# Altium integrated library Texas Instruments Interface RS-422.IntLib: 548 symbols (part 4 of 15)
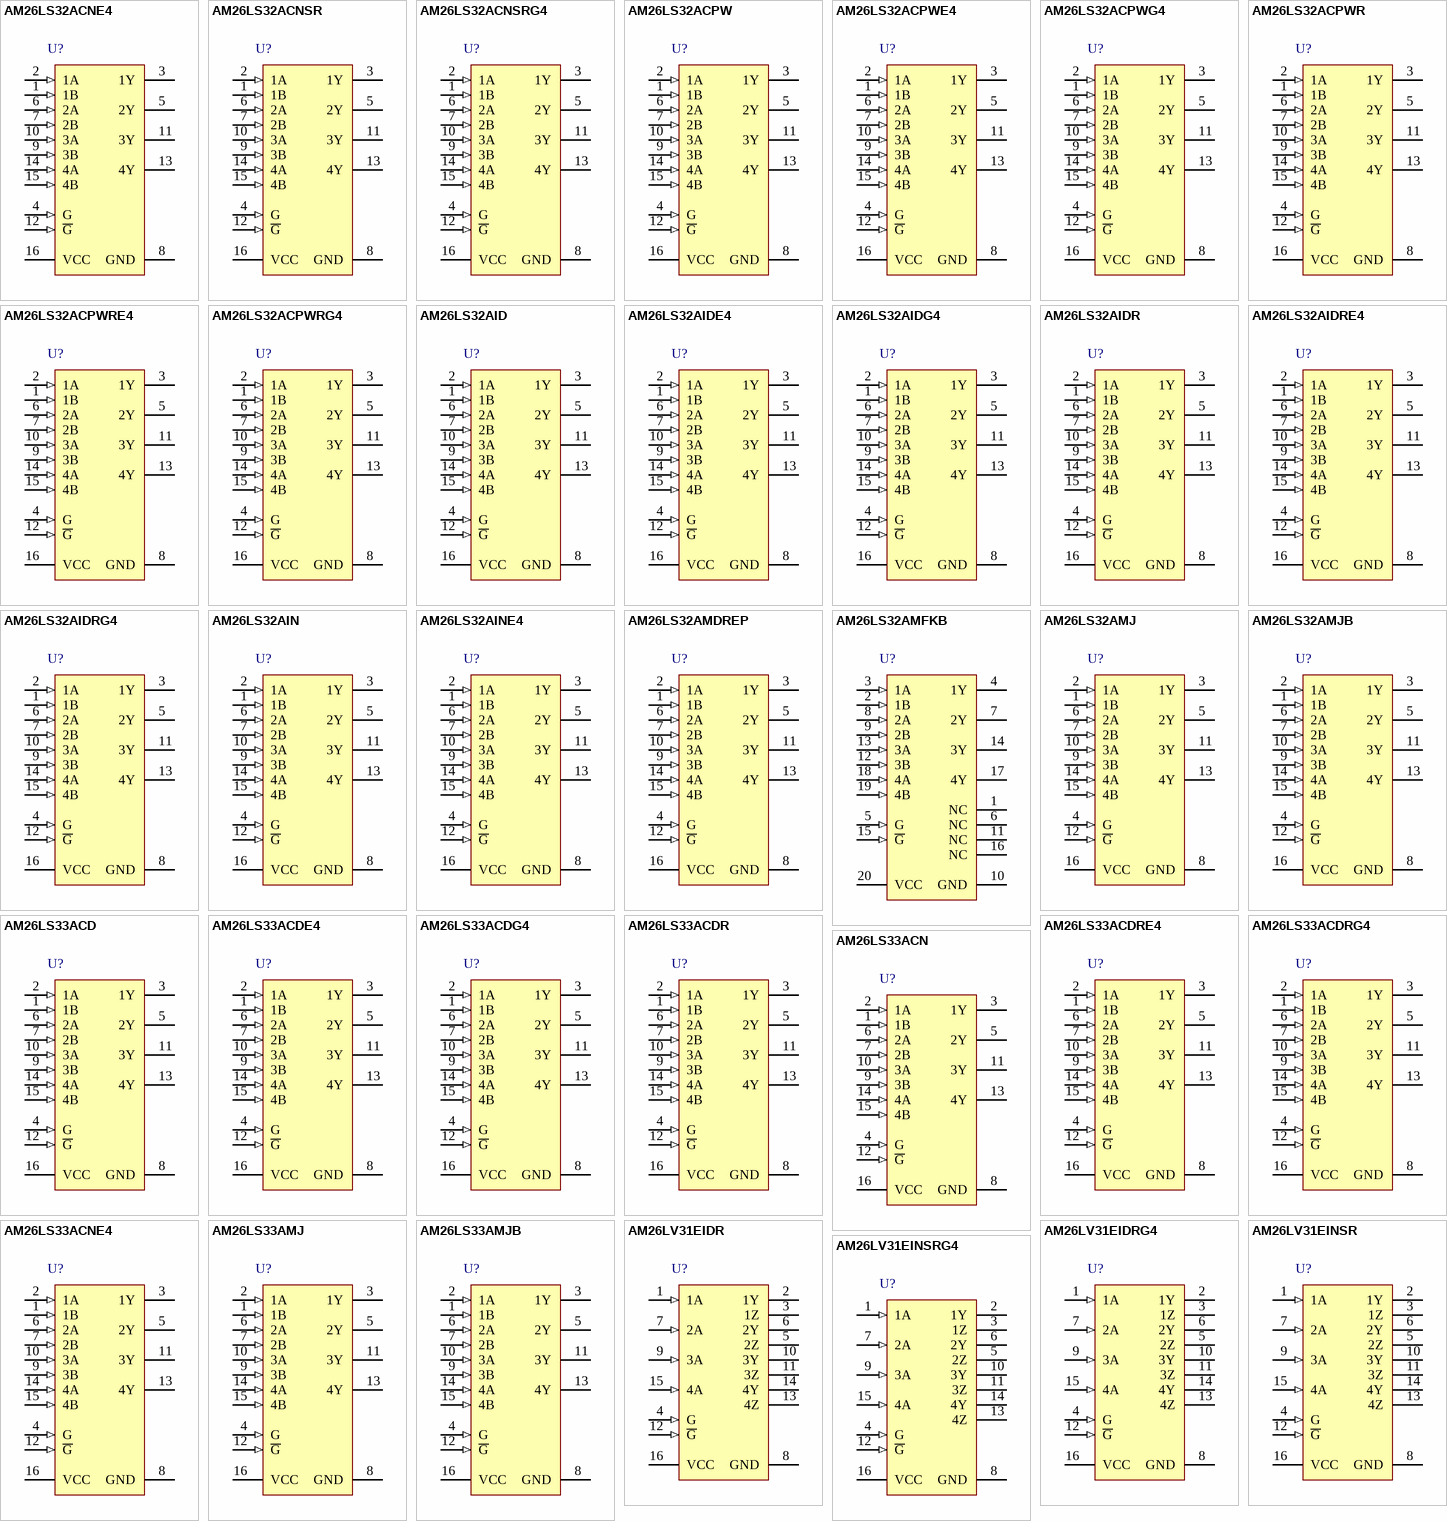
[diagram p18: symbols AM26LS32ACNE4 to AM26LV31EINSRG4]

## AM26LS32AID
designator U?
Quadruple Differential Line Receiver, 0 TX / 4 RX, 5V, -40 to 85 degC, 16-Pin SOIC (D), Green (RoHS & no Sb/Br); PartNumber: AM26LS32AID; Manufacturer: Texas Instruments; SubFamily: RS-422; Receivers Per Package: 4; ICC(Max)(mA): 70; Supply Voltage(s)(V): 5; ESD(kV): 2; Rating: Catalog; DatasheetVersion: SLLS115E; PackageVersion: revM, Jun-2011; PackageReference: D16; PackageDescription: 16-Pin Plastic Small Outline Integrated Circuit, 9.9 x 3.9 mm, Pitch 1.27 mm Pitch; Mounting Technology: Surface Mount; Eco-Plan: Green (RoHS & no Sb/Br); # of TX/RX: 0 TX / 4 RX; Footprint: AM26LS32; Code_JEDEC: MS-012AC; ComponentLink1Description: Datasheet; ComponentLink1URL: http://www.ti.com/general/docs/lit/getliterature.tsp?genericPartNumber=AM26LS32A&fileType=pdf; ComponentLink2Description: Package Specification; ComponentLink2URL: http://www.ti.com/litv/pdf/mpds178g
footprint D16_N (SOIC, 16-Leads, Body 9.9x3.9mm, Pitch 1.27mm, IPC Medium Density)
footprint D16_L (SOIC, 16-Leads, Body 9.9x3.9mm, Pitch 1.27mm, IPC High Density)
footprint D16_M (SOIC, 16-Leads, Body 9.9x3.9mm, Pitch 1.27mm, IPC Low Density)
pins: 1 1B (in), 2 1A (in), 3 1Y (hiz), 4 G (in), 5 2Y (hiz), 6 2A (in), 7 2B (in), 8 GND (power), 9 3B (in), 10 3A (in), 11 3Y (hiz), 12 ~{G} (in), 13 4Y (hiz), 14 4A (in), 15 4B (in), 16 VCC (power)

## AM26LS32AIDE4
designator U?
Quadruple Differential Line Receiver, 0 TX / 4 RX, 5V, -40 to 85 degC, 16-Pin SOIC (D), Green (RoHS & no Sb/Br); PartNumber: AM26LS32AIDE4; Manufacturer: Texas Instruments; SubFamily: RS-422; Receivers Per Package: 4; ICC(Max)(mA): 70; Supply Voltage(s)(V): 5; ESD(kV): 2; Rating: Catalog; DatasheetVersion: SLLS115E; PackageVersion: revM, Jun-2011; PackageReference: D16; PackageDescription: 16-Pin Plastic Small Outline Integrated Circuit, 9.9 x 3.9 mm, Pitch 1.27 mm Pitch; Mounting Technology: Surface Mount; Eco-Plan: Green (RoHS & no Sb/Br); # of TX/RX: 0 TX / 4 RX; Footprint: AM26LS32; Code_JEDEC: MS-012AC; ComponentLink1Description: Datasheet; ComponentLink1URL: http://www.ti.com/general/docs/lit/getliterature.tsp?genericPartNumber=AM26LS32A&fileType=pdf; ComponentLink2Description: Package Specification; ComponentLink2URL: http://www.ti.com/litv/pdf/mpds178g
footprint D16_N (SOIC, 16-Leads, Body 9.9x3.9mm, Pitch 1.27mm, IPC Medium Density)
footprint D16_L (SOIC, 16-Leads, Body 9.9x3.9mm, Pitch 1.27mm, IPC High Density)
footprint D16_M (SOIC, 16-Leads, Body 9.9x3.9mm, Pitch 1.27mm, IPC Low Density)
pins: 1 1B (in), 2 1A (in), 3 1Y (hiz), 4 G (in), 5 2Y (hiz), 6 2A (in), 7 2B (in), 8 GND (power), 9 3B (in), 10 3A (in), 11 3Y (hiz), 12 ~{G} (in), 13 4Y (hiz), 14 4A (in), 15 4B (in), 16 VCC (power)

## AM26LS32AIDG4
designator U?
Quadruple Differential Line Receiver, 0 TX / 4 RX, 5V, -40 to 85 degC, 16-Pin SOIC (D), Green (RoHS & no Sb/Br); PartNumber: AM26LS32AIDG4; Manufacturer: Texas Instruments; SubFamily: RS-422; Receivers Per Package: 4; ICC(Max)(mA): 70; Supply Voltage(s)(V): 5; ESD(kV): 2; Rating: Catalog; DatasheetVersion: SLLS115E; PackageVersion: revM, Jun-2011; PackageReference: D16; PackageDescription: 16-Pin Plastic Small Outline Integrated Circuit, 9.9 x 3.9 mm, Pitch 1.27 mm Pitch; Mounting Technology: Surface Mount; Eco-Plan: Green (RoHS & no Sb/Br); # of TX/RX: 0 TX / 4 RX; Footprint: AM26LS32; Code_JEDEC: MS-012AC; ComponentLink1Description: Datasheet; ComponentLink1URL: http://www.ti.com/general/docs/lit/getliterature.tsp?genericPartNumber=AM26LS32A&fileType=pdf; ComponentLink2Description: Package Specification; ComponentLink2URL: http://www.ti.com/litv/pdf/mpds178g
footprint D16_N (SOIC, 16-Leads, Body 9.9x3.9mm, Pitch 1.27mm, IPC Medium Density)
footprint D16_L (SOIC, 16-Leads, Body 9.9x3.9mm, Pitch 1.27mm, IPC High Density)
footprint D16_M (SOIC, 16-Leads, Body 9.9x3.9mm, Pitch 1.27mm, IPC Low Density)
pins: 1 1B (in), 2 1A (in), 3 1Y (hiz), 4 G (in), 5 2Y (hiz), 6 2A (in), 7 2B (in), 8 GND (power), 9 3B (in), 10 3A (in), 11 3Y (hiz), 12 ~{G} (in), 13 4Y (hiz), 14 4A (in), 15 4B (in), 16 VCC (power)

## AM26LS32AIDR
designator U?
Quadruple Differential Line Receiver, 0 TX / 4 RX, 5V, -40 to 85 degC, 16-Pin SOIC (D), Green (RoHS & no Sb/Br); PartNumber: AM26LS32AIDR; Manufacturer: Texas Instruments; SubFamily: RS-422; Receivers Per Package: 4; ICC(Max)(mA): 70; Supply Voltage(s)(V): 5; ESD(kV): 2; Rating: Catalog; DatasheetVersion: SLLS115E; PackageVersion: revM, Jun-2011; PackageReference: D16; PackageDescription: 16-Pin Plastic Small Outline Integrated Circuit, 9.9 x 3.9 mm, Pitch 1.27 mm Pitch; Mounting Technology: Surface Mount; Eco-Plan: Green (RoHS & no Sb/Br); # of TX/RX: 0 TX / 4 RX; Footprint: AM26LS32; Code_JEDEC: MS-012AC; ComponentLink1Description: Datasheet; ComponentLink1URL: http://www.ti.com/general/docs/lit/getliterature.tsp?genericPartNumber=AM26LS32A&fileType=pdf; ComponentLink2Description: Package Specification; ComponentLink2URL: http://www.ti.com/litv/pdf/mpds178g
footprint D16_N (SOIC, 16-Leads, Body 9.9x3.9mm, Pitch 1.27mm, IPC Medium Density)
footprint D16_L (SOIC, 16-Leads, Body 9.9x3.9mm, Pitch 1.27mm, IPC High Density)
footprint D16_M (SOIC, 16-Leads, Body 9.9x3.9mm, Pitch 1.27mm, IPC Low Density)
pins: 1 1B (in), 2 1A (in), 3 1Y (hiz), 4 G (in), 5 2Y (hiz), 6 2A (in), 7 2B (in), 8 GND (power), 9 3B (in), 10 3A (in), 11 3Y (hiz), 12 ~{G} (in), 13 4Y (hiz), 14 4A (in), 15 4B (in), 16 VCC (power)

## AM26LS32AIDRE4
designator U?
Quadruple Differential Line Receiver, 0 TX / 4 RX, 5V, -40 to 85 degC, 16-Pin SOIC (D), Green (RoHS & no Sb/Br); PartNumber: AM26LS32AIDRE4; Manufacturer: Texas Instruments; SubFamily: RS-422; Receivers Per Package: 4; ICC(Max)(mA): 70; Supply Voltage(s)(V): 5; ESD(kV): 2; Rating: Catalog; DatasheetVersion: SLLS115E; PackageVersion: revM, Jun-2011; PackageReference: D16; PackageDescription: 16-Pin Plastic Small Outline Integrated Circuit, 9.9 x 3.9 mm, Pitch 1.27 mm Pitch; Mounting Technology: Surface Mount; Eco-Plan: Green (RoHS & no Sb/Br); # of TX/RX: 0 TX / 4 RX; Footprint: AM26LS32; Code_JEDEC: MS-012AC; ComponentLink1Description: Datasheet; ComponentLink1URL: http://www.ti.com/general/docs/lit/getliterature.tsp?genericPartNumber=AM26LS32A&fileType=pdf; ComponentLink2Description: Package Specification; ComponentLink2URL: http://www.ti.com/litv/pdf/mpds178g
footprint D16_N (SOIC, 16-Leads, Body 9.9x3.9mm, Pitch 1.27mm, IPC Medium Density)
footprint D16_L (SOIC, 16-Leads, Body 9.9x3.9mm, Pitch 1.27mm, IPC High Density)
footprint D16_M (SOIC, 16-Leads, Body 9.9x3.9mm, Pitch 1.27mm, IPC Low Density)
pins: 1 1B (in), 2 1A (in), 3 1Y (hiz), 4 G (in), 5 2Y (hiz), 6 2A (in), 7 2B (in), 8 GND (power), 9 3B (in), 10 3A (in), 11 3Y (hiz), 12 ~{G} (in), 13 4Y (hiz), 14 4A (in), 15 4B (in), 16 VCC (power)

## AM26LS32AIDRG4
designator U?
Quadruple Differential Line Receiver, 0 TX / 4 RX, 5V, -40 to 85 degC, 16-Pin SOIC (D), Green (RoHS & no Sb/Br); PartNumber: AM26LS32AIDRG4; Manufacturer: Texas Instruments; SubFamily: RS-422; Receivers Per Package: 4; ICC(Max)(mA): 70; Supply Voltage(s)(V): 5; ESD(kV): 2; Rating: Catalog; DatasheetVersion: SLLS115E; PackageVersion: revM, Jun-2011; PackageReference: D16; PackageDescription: 16-Pin Plastic Small Outline Integrated Circuit, 9.9 x 3.9 mm, Pitch 1.27 mm Pitch; Mounting Technology: Surface Mount; Eco-Plan: Green (RoHS & no Sb/Br); # of TX/RX: 0 TX / 4 RX; Footprint: AM26LS32; Code_JEDEC: MS-012AC; ComponentLink1Description: Datasheet; ComponentLink1URL: http://www.ti.com/general/docs/lit/getliterature.tsp?genericPartNumber=AM26LS32A&fileType=pdf; ComponentLink2Description: Package Specification; ComponentLink2URL: http://www.ti.com/litv/pdf/mpds178g
footprint D16_N (SOIC, 16-Leads, Body 9.9x3.9mm, Pitch 1.27mm, IPC Medium Density)
footprint D16_L (SOIC, 16-Leads, Body 9.9x3.9mm, Pitch 1.27mm, IPC High Density)
footprint D16_M (SOIC, 16-Leads, Body 9.9x3.9mm, Pitch 1.27mm, IPC Low Density)
pins: 1 1B (in), 2 1A (in), 3 1Y (hiz), 4 G (in), 5 2Y (hiz), 6 2A (in), 7 2B (in), 8 GND (power), 9 3B (in), 10 3A (in), 11 3Y (hiz), 12 ~{G} (in), 13 4Y (hiz), 14 4A (in), 15 4B (in), 16 VCC (power)

## AM26LS32AIN
designator U?
Quadruple Differential Line Receiver, 0 TX / 4 RX, 5V, -40 to 85 degC, 16-Pin PDIP (N), Green (RoHS & no Sb/Br); PartNumber: AM26LS32AIN; Manufacturer: Texas Instruments; SubFamily: RS-422; Receivers Per Package: 4; ICC(Max)(mA): 70; Supply Voltage(s)(V): 5; ESD(kV): 2; Rating: Catalog; DatasheetVersion: SLLS115E; PackageVersion: revE, Dec-2002; PackageReference: N16; PackageDescription: 16-Pin Plastic Dual-In-Line Package, Row Spacing 7.62 mm, Pitch 2.54 mm; Mounting Technology: Through-hole; Eco-Plan: Green (RoHS & no Sb/Br); # of TX/RX: 0 TX / 4 RX; Footprint: AM26LS32; Code_JEDEC: MS-001*; ComponentLink1Description: Datasheet; ComponentLink1URL: http://www.ti.com/general/docs/lit/getliterature.tsp?genericPartNumber=AM26LS32A&fileType=pdf; ComponentLink2Description: Package Specification; ComponentLink2URL: http://www.ti.com/lit/ml/mpdi002c/mpdi002c.pdf
footprint N16 (DIP, 16-Leads, Row Spacing 7.62mm, Pitch 2.54mm, Body 19.3x6.4mm)
pins: 1 1B (in), 2 1A (in), 3 1Y (hiz), 4 G (in), 5 2Y (hiz), 6 2A (in), 7 2B (in), 8 GND (power), 9 3B (in), 10 3A (in), 11 3Y (hiz), 12 ~{G} (in), 13 4Y (hiz), 14 4A (in), 15 4B (in), 16 VCC (power)

## AM26LS32AINE4
designator U?
Quadruple Differential Line Receiver, 0 TX / 4 RX, 5V, -40 to 85 degC, 16-Pin PDIP (N), Green (RoHS & no Sb/Br); PartNumber: AM26LS32AINE4; Manufacturer: Texas Instruments; SubFamily: RS-422; Receivers Per Package: 4; ICC(Max)(mA): 70; Supply Voltage(s)(V): 5; ESD(kV): 2; Rating: Catalog; DatasheetVersion: SLLS115E; PackageVersion: revE, Dec-2002; PackageReference: N16; PackageDescription: 16-Pin Plastic Dual-In-Line Package, Row Spacing 7.62 mm, Pitch 2.54 mm; Mounting Technology: Through-hole; Eco-Plan: Green (RoHS & no Sb/Br); # of TX/RX: 0 TX / 4 RX; Footprint: AM26LS32; Code_JEDEC: MS-001*; ComponentLink1Description: Datasheet; ComponentLink1URL: http://www.ti.com/general/docs/lit/getliterature.tsp?genericPartNumber=AM26LS32A&fileType=pdf; ComponentLink2Description: Package Specification; ComponentLink2URL: http://www.ti.com/lit/ml/mpdi002c/mpdi002c.pdf
footprint N16 (DIP, 16-Leads, Row Spacing 7.62mm, Pitch 2.54mm, Body 19.3x6.4mm)
pins: 1 1B (in), 2 1A (in), 3 1Y (hiz), 4 G (in), 5 2Y (hiz), 6 2A (in), 7 2B (in), 8 GND (power), 9 3B (in), 10 3A (in), 11 3Y (hiz), 12 ~{G} (in), 13 4Y (hiz), 14 4A (in), 15 4B (in), 16 VCC (power)

## AM26LS32AMDREP
designator U?
Enhanced Product Quadruple Differential Line Receiver, 0 TX / 4 RX, 5V, -55 to 125 degC, 16-Pin SOIC (D), Green (RoHS & no Sb/Br); PartNumber: AM26LS32AMDREP; Manufacturer: Texas Instruments; SubFamily: RS-422; ICC(Max)(mA): 70; Supply Voltage(s)(V): 5; Rating: HiRel Enhanced Product; DatasheetVersion: SLLS730; PackageVersion: revM, Jun-2011; PackageReference: D16; PackageDescription: 16-Pin Plastic Small Outline Integrated Circuit, 9.9 x 3.9 mm, Pitch 1.27 mm Pitch; Mounting Technology: Surface Mount; Eco-Plan: Green (RoHS & no Sb/Br); # of TX/RX: 0 TX / 4 RX; Code_JEDEC: MS-012AC; ComponentLink1Description: Datasheet; ComponentLink1URL: http://www.ti.com/general/docs/lit/getliterature.tsp?genericPartNumber=AM26LS32AM-EP&fileType=pdf; ComponentLink2Description: Package Specification; ComponentLink2URL: http://www.ti.com/litv/pdf/mpds178g
footprint D16_N (SOIC, 16-Leads, Body 9.9x3.9mm, Pitch 1.27mm, IPC Medium Density)
footprint D16_L (SOIC, 16-Leads, Body 9.9x3.9mm, Pitch 1.27mm, IPC High Density)
footprint D16_M (SOIC, 16-Leads, Body 9.9x3.9mm, Pitch 1.27mm, IPC Low Density)
pins: 1 1B (in), 2 1A (in), 3 1Y (hiz), 4 G (in), 5 2Y (hiz), 6 2A (in), 7 2B (in), 8 GND (power), 9 3B (in), 10 3A (in), 11 3Y (hiz), 12 ~{G} (in), 13 4Y (hiz), 14 4A (in), 15 4B (in), 16 VCC (power)

## AM26LS32AMFKB
designator U?
Quadruple Differential Line Receiver, 0 TX / 4 RX, -55 to 125 degC, 20-Pin LCCC(FK); PartNumber: AM26LS32AMFKB; Manufacturer: Texas Instruments; Eco-Plan: TBD; SubFamily: RS-422; Receivers Per Package: 4; ICC(Max)(mA): 70; Rating: Military; DatasheetVersion: SLLS115E; PackageVersion: revD, Jan-2011; PackageReference: FK20; PackageDescription: 20-Pin Leadless Ceramic Chip Carrier, 1.27 mm Pitch; Mounting Technology: Surface Mount; # of TX/RX: 0 TX / 4 RX; Code_JEDEC: MS-004; ComponentLink1Description: Datasheet; ComponentLink1URL: http://www.ti.com/general/docs/lit/getliterature.tsp?genericPartNumber=AM26LS32AM&fileType=pdf; ComponentLink2Description: Package Specification; ComponentLink2URL: http://www.ti.com/litv/pdf/mlcc006d
footprint FK20_N (Leadless Chip Carrier, 20-Leads, Body 8.9x8.9mm, Pitch 1.27mm, IPC Medium Density)
footprint FK20_L (Leadless Chip Carrier, 20-Leads, Body 8.9x8.9mm, Pitch 1.27mm, IPC High Density)
footprint FK20_M (Leadless Chip Carrier, 20-Leads, Body 8.9x8.9mm, Pitch 1.27mm, IPC Low Density)
pins: 1 NC, 2 1B (in), 3 1A (in), 4 1Y (hiz), 5 G (in), 6 NC, 7 2Y (hiz), 8 2A (in), 9 2B (in), 10 GND (power), 11 NC, 12 3B (in), 13 3A (in), 14 3Y (hiz), 15 ~{G} (in), 16 NC, 17 4Y (hiz), 18 4A (in), 19 4B (in), 20 VCC (power)

## AM26LS32AMJ
designator U?
Quadruple Differential Line Receiver, 0 TX / 4 RX, -55 to 125 degC, 16-Pin CDIP(J); PartNumber: AM26LS32AMJ; Manufacturer: Texas Instruments; Eco-Plan: TBD; SubFamily: RS-422; Receivers Per Package: 4; ICC(Max)(mA): 70; Rating: Military; DatasheetVersion: SLLS115E; PackageVersion: revF, Mar-2003; PackageReference: J16; PackageDescription: 16-Pin, Ceramic Dual In-Line Package, Row Spacing 7.62 mm, Pitch 2.54 mm; Mounting Technology: Through-hole; # of TX/RX: 0 TX / 4 RX; ComponentLink1Description: Datasheet; ComponentLink1URL: http://www.ti.com/general/docs/lit/getliterature.tsp?genericPartNumber=AM26LS32AM&fileType=pdf; ComponentLink2Description: Package Specification; ComponentLink2URL: http://www.ti.com/lit/ml/mcer002d/mcer002d.pdf
footprint J16 (DIP, 16-Leads, Row Spacing 7.62mm, Pitch 2.54mm, Body 21.3x6.9mm)
pins: 1 1B (in), 2 1A (in), 3 1Y (hiz), 4 G (in), 5 2Y (hiz), 6 2A (in), 7 2B (in), 8 GND (power), 9 3B (in), 10 3A (in), 11 3Y (hiz), 12 ~{G} (in), 13 4Y (hiz), 14 4A (in), 15 4B (in), 16 VCC (power)

## AM26LS32AMJB
designator U?
Quadruple Differential Line Receiver, 0 TX / 4 RX, -55 to 125 degC, 16-Pin CDIP(J); PartNumber: AM26LS32AMJB; Manufacturer: Texas Instruments; Eco-Plan: TBD; SubFamily: RS-422; Receivers Per Package: 4; ICC(Max)(mA): 70; Rating: Military; DatasheetVersion: SLLS115E; PackageVersion: revF, Mar-2003; PackageReference: J16; PackageDescription: 16-Pin, Ceramic Dual In-Line Package, Row Spacing 7.62 mm, Pitch 2.54 mm; Mounting Technology: Through-hole; # of TX/RX: 0 TX / 4 RX; ComponentLink1Description: Datasheet; ComponentLink1URL: http://www.ti.com/general/docs/lit/getliterature.tsp?genericPartNumber=AM26LS32AM&fileType=pdf; ComponentLink2Description: Package Specification; ComponentLink2URL: http://www.ti.com/lit/ml/mcer002d/mcer002d.pdf
footprint J16 (DIP, 16-Leads, Row Spacing 7.62mm, Pitch 2.54mm, Body 21.3x6.9mm)
pins: 1 1B (in), 2 1A (in), 3 1Y (hiz), 4 G (in), 5 2Y (hiz), 6 2A (in), 7 2B (in), 8 GND (power), 9 3B (in), 10 3A (in), 11 3Y (hiz), 12 ~{G} (in), 13 4Y (hiz), 14 4A (in), 15 4B (in), 16 VCC (power)

## AM26LS33ACD
designator U?
Quadruple Differential Line Receiver, 0 TX / 4 RX, 5V, 0 to 70 degC, 16-Pin SOIC (D), Green (RoHS & no Sb/Br); PartNumber: AM26LS33ACD; Manufacturer: Texas Instruments; SubFamily: RS-422; Receivers Per Package: 4; ICC(Max)(mA): 70; Receiver (Vth)(mV): 500; Receiver tpd(ns): 35; Supply Voltage(s)(V): 5; Rating: Catalog; DatasheetVersion: SLLS115E; PackageVersion: revM, Jun-2011; PackageReference: D16; PackageDescription: 16-Pin Plastic Small Outline Integrated Circuit, 9.9 x 3.9 mm, Pitch 1.27 mm Pitch; Mounting Technology: Surface Mount; Eco-Plan: Green (RoHS & no Sb/Br); # of TX/RX: 0 TX / 4 RX; Footprint: AM26LS32; Code_JEDEC: MS-012AC; ComponentLink1Description: Datasheet; ComponentLink1URL: http://www.ti.com/general/docs/lit/getliterature.tsp?genericPartNumber=AM26LS33A&fileType=pdf; ComponentLink2Description: Package Specification; ComponentLink2URL: http://www.ti.com/litv/pdf/mpds178g
footprint D16_N (SOIC, 16-Leads, Body 9.9x3.9mm, Pitch 1.27mm, IPC Medium Density)
footprint D16_L (SOIC, 16-Leads, Body 9.9x3.9mm, Pitch 1.27mm, IPC High Density)
footprint D16_M (SOIC, 16-Leads, Body 9.9x3.9mm, Pitch 1.27mm, IPC Low Density)
pins: 1 1B (in), 2 1A (in), 3 1Y (hiz), 4 G (in), 5 2Y (hiz), 6 2A (in), 7 2B (in), 8 GND (power), 9 3B (in), 10 3A (in), 11 3Y (hiz), 12 ~{G} (in), 13 4Y (hiz), 14 4A (in), 15 4B (in), 16 VCC (power)

## AM26LS33ACDE4
designator U?
Quadruple Differential Line Receiver, 0 TX / 4 RX, 5V, 0 to 70 degC, 16-Pin SOIC (D), Green (RoHS & no Sb/Br); PartNumber: AM26LS33ACDE4; Manufacturer: Texas Instruments; SubFamily: RS-422; Receivers Per Package: 4; ICC(Max)(mA): 70; Receiver (Vth)(mV): 500; Receiver tpd(ns): 35; Supply Voltage(s)(V): 5; Rating: Catalog; DatasheetVersion: SLLS115E; PackageVersion: revM, Jun-2011; PackageReference: D16; PackageDescription: 16-Pin Plastic Small Outline Integrated Circuit, 9.9 x 3.9 mm, Pitch 1.27 mm Pitch; Mounting Technology: Surface Mount; Eco-Plan: Green (RoHS & no Sb/Br); # of TX/RX: 0 TX / 4 RX; Footprint: AM26LS32; Code_JEDEC: MS-012AC; ComponentLink1Description: Datasheet; ComponentLink1URL: http://www.ti.com/general/docs/lit/getliterature.tsp?genericPartNumber=AM26LS33A&fileType=pdf; ComponentLink2Description: Package Specification; ComponentLink2URL: http://www.ti.com/litv/pdf/mpds178g
footprint D16_N (SOIC, 16-Leads, Body 9.9x3.9mm, Pitch 1.27mm, IPC Medium Density)
footprint D16_L (SOIC, 16-Leads, Body 9.9x3.9mm, Pitch 1.27mm, IPC High Density)
footprint D16_M (SOIC, 16-Leads, Body 9.9x3.9mm, Pitch 1.27mm, IPC Low Density)
pins: 1 1B (in), 2 1A (in), 3 1Y (hiz), 4 G (in), 5 2Y (hiz), 6 2A (in), 7 2B (in), 8 GND (power), 9 3B (in), 10 3A (in), 11 3Y (hiz), 12 ~{G} (in), 13 4Y (hiz), 14 4A (in), 15 4B (in), 16 VCC (power)

## AM26LS33ACDG4
designator U?
Quadruple Differential Line Receiver, 0 TX / 4 RX, 5V, 0 to 70 degC, 16-Pin SOIC (D), Green (RoHS & no Sb/Br); PartNumber: AM26LS33ACDG4; Manufacturer: Texas Instruments; SubFamily: RS-422; Receivers Per Package: 4; ICC(Max)(mA): 70; Receiver (Vth)(mV): 500; Receiver tpd(ns): 35; Supply Voltage(s)(V): 5; Rating: Catalog; DatasheetVersion: SLLS115E; PackageVersion: revM, Jun-2011; PackageReference: D16; PackageDescription: 16-Pin Plastic Small Outline Integrated Circuit, 9.9 x 3.9 mm, Pitch 1.27 mm Pitch; Mounting Technology: Surface Mount; Eco-Plan: Green (RoHS & no Sb/Br); # of TX/RX: 0 TX / 4 RX; Footprint: AM26LS32; Code_JEDEC: MS-012AC; ComponentLink1Description: Datasheet; ComponentLink1URL: http://www.ti.com/general/docs/lit/getliterature.tsp?genericPartNumber=AM26LS33A&fileType=pdf; ComponentLink2Description: Package Specification; ComponentLink2URL: http://www.ti.com/litv/pdf/mpds178g
footprint D16_N (SOIC, 16-Leads, Body 9.9x3.9mm, Pitch 1.27mm, IPC Medium Density)
footprint D16_L (SOIC, 16-Leads, Body 9.9x3.9mm, Pitch 1.27mm, IPC High Density)
footprint D16_M (SOIC, 16-Leads, Body 9.9x3.9mm, Pitch 1.27mm, IPC Low Density)
pins: 1 1B (in), 2 1A (in), 3 1Y (hiz), 4 G (in), 5 2Y (hiz), 6 2A (in), 7 2B (in), 8 GND (power), 9 3B (in), 10 3A (in), 11 3Y (hiz), 12 ~{G} (in), 13 4Y (hiz), 14 4A (in), 15 4B (in), 16 VCC (power)

## AM26LS33ACDR
designator U?
Quadruple Differential Line Receiver, 0 TX / 4 RX, 5V, 0 to 70 degC, 16-Pin SOIC(D), Green (RoHS & no Sb/Br); PartNumber: AM26LS33ACDR; Manufacturer: Texas Instruments; SubFamily: RS-422; Receivers Per Package: 4; ICC(Max)(mA): 70; Receiver (Vth)(mV): 500; Receiver tpd(ns): 35; Supply Voltage(s)(V): 5; Rating: Catalog; DatasheetVersion: SLLS115E; PackageVersion: revM, Jun-2011; PackageReference: D16; PackageDescription: 16-Pin Plastic Small Outline Integrated Circuit, 9.9 x 3.9 mm, Pitch 1.27 mm Pitch; Mounting Technology: Surface Mount; Eco-Plan: Green (RoHS & no Sb/Br); # of TX/RX: 0 TX / 4 RX; Footprint: AM26LS32; Code_JEDEC: MS-012AC; ComponentLink1Description: Datasheet; ComponentLink1URL: http://www.ti.com/general/docs/lit/getliterature.tsp?genericPartNumber=AM26LS33A&fileType=pdf; ComponentLink2Description: Package Specification; ComponentLink2URL: http://www.ti.com/litv/pdf/mpds178g
footprint D16_N (SOIC, 16-Leads, Body 9.9x3.9mm, Pitch 1.27mm, IPC Medium Density)
footprint D16_L (SOIC, 16-Leads, Body 9.9x3.9mm, Pitch 1.27mm, IPC High Density)
footprint D16_M (SOIC, 16-Leads, Body 9.9x3.9mm, Pitch 1.27mm, IPC Low Density)
pins: 1 1B (in), 2 1A (in), 3 1Y (hiz), 4 G (in), 5 2Y (hiz), 6 2A (in), 7 2B (in), 8 GND (power), 9 3B (in), 10 3A (in), 11 3Y (hiz), 12 ~{G} (in), 13 4Y (hiz), 14 4A (in), 15 4B (in), 16 VCC (power)

## AM26LS33ACDRE4
designator U?
Quadruple Differential Line Receiver, 0 TX / 4 RX, 5V, 0 to 70 degC, 16-Pin SOIC(D), Green (RoHS & no Sb/Br); PartNumber: AM26LS33ACDRE4; Manufacturer: Texas Instruments; SubFamily: RS-422; Receivers Per Package: 4; ICC(Max)(mA): 70; Receiver (Vth)(mV): 500; Receiver tpd(ns): 35; Supply Voltage(s)(V): 5; Rating: Catalog; DatasheetVersion: SLLS115E; PackageVersion: revM, Jun-2011; PackageReference: D16; PackageDescription: 16-Pin Plastic Small Outline Integrated Circuit, 9.9 x 3.9 mm, Pitch 1.27 mm Pitch; Mounting Technology: Surface Mount; Eco-Plan: Green (RoHS & no Sb/Br); # of TX/RX: 0 TX / 4 RX; Footprint: AM26LS32; Code_JEDEC: MS-012AC; ComponentLink1Description: Datasheet; ComponentLink1URL: http://www.ti.com/general/docs/lit/getliterature.tsp?genericPartNumber=AM26LS33A&fileType=pdf; ComponentLink2Description: Package Specification; ComponentLink2URL: http://www.ti.com/litv/pdf/mpds178g
footprint D16_N (SOIC, 16-Leads, Body 9.9x3.9mm, Pitch 1.27mm, IPC Medium Density)
footprint D16_L (SOIC, 16-Leads, Body 9.9x3.9mm, Pitch 1.27mm, IPC High Density)
footprint D16_M (SOIC, 16-Leads, Body 9.9x3.9mm, Pitch 1.27mm, IPC Low Density)
pins: 1 1B (in), 2 1A (in), 3 1Y (hiz), 4 G (in), 5 2Y (hiz), 6 2A (in), 7 2B (in), 8 GND (power), 9 3B (in), 10 3A (in), 11 3Y (hiz), 12 ~{G} (in), 13 4Y (hiz), 14 4A (in), 15 4B (in), 16 VCC (power)

## AM26LS33ACDRG4
designator U?
Quadruple Differential Line Receiver, 0 TX / 4 RX, 5V, 0 to 70 degC, 16-Pin SOIC(D), Green (RoHS & no Sb/Br); PartNumber: AM26LS33ACDRG4; Manufacturer: Texas Instruments; SubFamily: RS-422; Receivers Per Package: 4; ICC(Max)(mA): 70; Receiver (Vth)(mV): 500; Receiver tpd(ns): 35; Supply Voltage(s)(V): 5; Rating: Catalog; DatasheetVersion: SLLS115E; PackageVersion: revM, Jun-2011; PackageReference: D16; PackageDescription: 16-Pin Plastic Small Outline Integrated Circuit, 9.9 x 3.9 mm, Pitch 1.27 mm Pitch; Mounting Technology: Surface Mount; Eco-Plan: Green (RoHS & no Sb/Br); # of TX/RX: 0 TX / 4 RX; Footprint: AM26LS32; Code_JEDEC: MS-012AC; ComponentLink1Description: Datasheet; ComponentLink1URL: http://www.ti.com/general/docs/lit/getliterature.tsp?genericPartNumber=AM26LS33A&fileType=pdf; ComponentLink2Description: Package Specification; ComponentLink2URL: http://www.ti.com/litv/pdf/mpds178g
footprint D16_N (SOIC, 16-Leads, Body 9.9x3.9mm, Pitch 1.27mm, IPC Medium Density)
footprint D16_L (SOIC, 16-Leads, Body 9.9x3.9mm, Pitch 1.27mm, IPC High Density)
footprint D16_M (SOIC, 16-Leads, Body 9.9x3.9mm, Pitch 1.27mm, IPC Low Density)
pins: 1 1B (in), 2 1A (in), 3 1Y (hiz), 4 G (in), 5 2Y (hiz), 6 2A (in), 7 2B (in), 8 GND (power), 9 3B (in), 10 3A (in), 11 3Y (hiz), 12 ~{G} (in), 13 4Y (hiz), 14 4A (in), 15 4B (in), 16 VCC (power)

## AM26LS33ACN
designator U?
Quadruple Differential Line Receiver, 0 TX / 4 RX, 5V, 0 to 70 degC, 16-Pin PDIP(N), Green (RoHS & no Sb/Br); PartNumber: AM26LS33ACN; Manufacturer: Texas Instruments; SubFamily: RS-422; Receivers Per Package: 4; ICC(Max)(mA): 70; Receiver (Vth)(mV): 500; Receiver tpd(ns): 35; Supply Voltage(s)(V): 5; Rating: Catalog; DatasheetVersion: SLLS115E; PackageVersion: revE, Dec-2002; PackageReference: N16; PackageDescription: 16-Pin Plastic Dual-In-Line Package, Row Spacing 7.62 mm, Pitch 2.54 mm; Mounting Technology: Through-hole; Eco-Plan: Green (RoHS & no Sb/Br); # of TX/RX: 0 TX / 4 RX; Footprint: AM26LS32; Code_JEDEC: MS-001*; ComponentLink1Description: Datasheet; ComponentLink1URL: http://www.ti.com/general/docs/lit/getliterature.tsp?genericPartNumber=AM26LS33A&fileType=pdf; ComponentLink2Description: Package Specification; ComponentLink2URL: http://www.ti.com/lit/ml/mpdi002c/mpdi002c.pdf
footprint N16 (DIP, 16-Leads, Row Spacing 7.62mm, Pitch 2.54mm, Body 19.3x6.4mm)
pins: 1 1B (in), 2 1A (in), 3 1Y (hiz), 4 G (in), 5 2Y (hiz), 6 2A (in), 7 2B (in), 8 GND (power), 9 3B (in), 10 3A (in), 11 3Y (hiz), 12 ~{G} (in), 13 4Y (hiz), 14 4A (in), 15 4B (in), 16 VCC (power)

## AM26LS33ACNE4
designator U?
Quadruple Differential Line Receiver, 0 TX / 4 RX, 5V, 0 to 70 degC, 16-Pin PDIP(N), Green (RoHS & no Sb/Br); PartNumber: AM26LS33ACNE4; Manufacturer: Texas Instruments; SubFamily: RS-422; Receivers Per Package: 4; ICC(Max)(mA): 70; Receiver (Vth)(mV): 500; Receiver tpd(ns): 35; Supply Voltage(s)(V): 5; Rating: Catalog; DatasheetVersion: SLLS115E; PackageVersion: revE, Dec-2002; PackageReference: N16; PackageDescription: 16-Pin Plastic Dual-In-Line Package, Row Spacing 7.62 mm, Pitch 2.54 mm; Mounting Technology: Through-hole; Eco-Plan: Green (RoHS & no Sb/Br); # of TX/RX: 0 TX / 4 RX; Footprint: AM26LS32; Code_JEDEC: MS-001*; ComponentLink1Description: Datasheet; ComponentLink1URL: http://www.ti.com/general/docs/lit/getliterature.tsp?genericPartNumber=AM26LS33A&fileType=pdf; ComponentLink2Description: Package Specification; ComponentLink2URL: http://www.ti.com/lit/ml/mpdi002c/mpdi002c.pdf
footprint N16 (DIP, 16-Leads, Row Spacing 7.62mm, Pitch 2.54mm, Body 19.3x6.4mm)
pins: 1 1B (in), 2 1A (in), 3 1Y (hiz), 4 G (in), 5 2Y (hiz), 6 2A (in), 7 2B (in), 8 GND (power), 9 3B (in), 10 3A (in), 11 3Y (hiz), 12 ~{G} (in), 13 4Y (hiz), 14 4A (in), 15 4B (in), 16 VCC (power)

## AM26LS33AMJ
designator U?
Quadruple Differential Line Receiver, 0 TX / 4 RX, -55 to 125 degC, 16-Pin CDIP(J); PartNumber: AM26LS33AMJ; Manufacturer: Texas Instruments; Eco-Plan: TBD; SubFamily: RS-422; Receivers Per Package: 4; Rating: Military; DatasheetVersion: SLLS115E; PackageVersion: revF, Mar-2003; PackageReference: J16; PackageDescription: 16-Pin, Ceramic Dual In-Line Package, Row Spacing 7.62 mm, Pitch 2.54 mm; Mounting Technology: Through-hole; # of TX/RX: 0 TX / 4 RX; ComponentLink1Description: Datasheet; ComponentLink1URL: http://www.ti.com/general/docs/lit/getliterature.tsp?genericPartNumber=AM26LS33AM&fileType=pdf; ComponentLink2Description: Package Specification; ComponentLink2URL: http://www.ti.com/lit/ml/mcer002d/mcer002d.pdf
footprint J16 (DIP, 16-Leads, Row Spacing 7.62mm, Pitch 2.54mm, Body 21.3x6.9mm)
pins: 1 1B (in), 2 1A (in), 3 1Y (hiz), 4 G (in), 5 2Y (hiz), 6 2A (in), 7 2B (in), 8 GND (power), 9 3B (in), 10 3A (in), 11 3Y (hiz), 12 ~{G} (in), 13 4Y (hiz), 14 4A (in), 15 4B (in), 16 VCC (power)

## AM26LS33AMJB
designator U?
Quadruple Differential Line Receiver, 0 TX / 4 RX, -55 to 125 degC, 16-Pin CDIP(J); PartNumber: AM26LS33AMJB; Manufacturer: Texas Instruments; Eco-Plan: TBD; SubFamily: RS-422; Receivers Per Package: 4; Rating: Military; DatasheetVersion: SLLS115E; PackageVersion: revF, Mar-2003; PackageReference: J16; PackageDescription: 16-Pin, Ceramic Dual In-Line Package, Row Spacing 7.62 mm, Pitch 2.54 mm; Mounting Technology: Through-hole; # of TX/RX: 0 TX / 4 RX; ComponentLink1Description: Datasheet; ComponentLink1URL: http://www.ti.com/general/docs/lit/getliterature.tsp?genericPartNumber=AM26LS33AM&fileType=pdf; ComponentLink2Description: Package Specification; ComponentLink2URL: http://www.ti.com/lit/ml/mcer002d/mcer002d.pdf
footprint J16 (DIP, 16-Leads, Row Spacing 7.62mm, Pitch 2.54mm, Body 21.3x6.9mm)
pins: 1 1B (in), 2 1A (in), 3 1Y (hiz), 4 G (in), 5 2Y (hiz), 6 2A (in), 7 2B (in), 8 GND (power), 9 3B (in), 10 3A (in), 11 3Y (hiz), 12 ~{G} (in), 13 4Y (hiz), 14 4A (in), 15 4B (in), 16 VCC (power)

## AM26LV31EIDR
designator U?
Low-Voltage High-Speed Quadruple Differential Line Driver with +/-15-kV IEC ESD Protection, 4 TX / 0 RX, 3.3V, -40 to 85 degC, 16-Pin SOIC (D), Green (RoHS & no Sb/Br); PartNumber: AM26LV31EIDR; Manufacturer: Texas Instruments; SubFamily: RS-422; Drivers Per Package: 4; ICC(Max)(mA): 0.1; Supply Voltage(s)(V): 3.3; Supply Voltage(s)(Max)(V): 3.6; Supply Voltage(s)(Min)(V): 3; ESD(kV): 15; Rating: Catalog; DatasheetVersion: SLLS848A; PackageVersion: revM, Jun-2011; PackageReference: D16; PackageDescription: 16-Pin Plastic Small Outline Integrated Circuit, 9.9 x 3.9 mm, Pitch 1.27 mm Pitch; Mounting Technology: Surface Mount; Eco-Plan: Green (RoHS & no Sb/Br); # of TX/RX: 4 TX / 0 RX; Code_JEDEC: MS-012AC; ComponentLink1Description: Datasheet; ComponentLink1URL: http://www.ti.com/general/docs/lit/getliterature.tsp?genericPartNumber=AM26LV31E&fileType=pdf; ComponentLink2Description: Package Specification; ComponentLink2URL: http://www.ti.com/litv/pdf/mpds178g
footprint D16_N (SOIC, 16-Leads, Body 9.9x3.9mm, Pitch 1.27mm, IPC Medium Density)
footprint D16_L (SOIC, 16-Leads, Body 9.9x3.9mm, Pitch 1.27mm, IPC High Density)
footprint D16_M (SOIC, 16-Leads, Body 9.9x3.9mm, Pitch 1.27mm, IPC Low Density)
pins: 1 1A (in), 2 1Y (hiz), 3 1Z (hiz), 4 G (in), 5 2Z (hiz), 6 2Y (hiz), 7 2A (in), 8 GND (power), 9 3A (in), 10 3Y (hiz), 11 3Z (hiz), 12 ~{G} (in), 13 4Z (hiz), 14 4Y (hiz), 15 4A (in), 16 VCC (power)

## AM26LV31EIDRG4
designator U?
Low-Voltage High-Speed Quadruple Differential Line Driver with +/-15-kV IEC ESD Protection, 4 TX / 0 RX, 3.3V, -40 to 85 degC, 16-Pin SOIC (D), Green (RoHS & no Sb/Br); PartNumber: AM26LV31EIDRG4; Manufacturer: Texas Instruments; SubFamily: RS-422; Drivers Per Package: 4; ICC(Max)(mA): 0.1; Supply Voltage(s)(V): 3.3; Supply Voltage(s)(Max)(V): 3.6; Supply Voltage(s)(Min)(V): 3; ESD(kV): 15; Rating: Catalog; DatasheetVersion: SLLS848A; PackageVersion: revM, Jun-2011; PackageReference: D16; PackageDescription: 16-Pin Plastic Small Outline Integrated Circuit, 9.9 x 3.9 mm, Pitch 1.27 mm Pitch; Mounting Technology: Surface Mount; Eco-Plan: Green (RoHS & no Sb/Br); # of TX/RX: 4 TX / 0 RX; Code_JEDEC: MS-012AC; ComponentLink1Description: Datasheet; ComponentLink1URL: http://www.ti.com/general/docs/lit/getliterature.tsp?genericPartNumber=AM26LV31E&fileType=pdf; ComponentLink2Description: Package Specification; ComponentLink2URL: http://www.ti.com/litv/pdf/mpds178g
footprint D16_N (SOIC, 16-Leads, Body 9.9x3.9mm, Pitch 1.27mm, IPC Medium Density)
footprint D16_L (SOIC, 16-Leads, Body 9.9x3.9mm, Pitch 1.27mm, IPC High Density)
footprint D16_M (SOIC, 16-Leads, Body 9.9x3.9mm, Pitch 1.27mm, IPC Low Density)
pins: 1 1A (in), 2 1Y (hiz), 3 1Z (hiz), 4 G (in), 5 2Z (hiz), 6 2Y (hiz), 7 2A (in), 8 GND (power), 9 3A (in), 10 3Y (hiz), 11 3Z (hiz), 12 ~{G} (in), 13 4Z (hiz), 14 4Y (hiz), 15 4A (in), 16 VCC (power)

## AM26LV31EINSR
designator U?
Low-Voltage High-Speed Quadruple Differential Line Driver with +/-15-kV IEC ESD Protection, 4 TX / 0 RX, 3.3V, -40 to 85 degC, 16-Pin SO (NS), Green (RoHS & no Sb/Br); PartNumber: AM26LV31EINSR; Manufacturer: Texas Instruments; SubFamily: RS-422; Drivers Per Package: 4; ICC(Max)(mA): 0.1; Supply Voltage(s)(V): 3.3; Supply Voltage(s)(Max)(V): 3.6; Supply Voltage(s)(Min)(V): 3; ESD(kV): 15; Rating: Catalog; DatasheetVersion: SLLS848A; PackageVersion: revC, Mar-2003; PackageReference: NS16; PackageDescription: 16-Pin Plastic Small Outline Package, 10.2 x 5.3 mm, Pitch 1.27 mm Pitch; Mounting Technology: Surface Mount; Eco-Plan: Green (RoHS & no Sb/Br); # of TX/RX: 4 TX / 0 RX; ComponentLink1Description: Datasheet; ComponentLink1URL: http://www.ti.com/general/docs/lit/getliterature.tsp?genericPartNumber=AM26LV31E&fileType=pdf; ComponentLink2Description: Package Specification; ComponentLink2URL: http://www.ti.com/litv/pdf/msop002a
footprint NS16_N (SOP, 16-Leads, Body 10.2x5.3mm, Pitch 1.27mm, IPC Medium Density)
footprint NS16_L (SOP, 16-Leads, Body 10.2x5.3mm, Pitch 1.27mm, IPC High Density)
footprint NS16_M (SOP, 16-Leads, Body 10.2x5.3mm, Pitch 1.27mm, IPC Low Density)
pins: 1 1A (in), 2 1Y (hiz), 3 1Z (hiz), 4 G (in), 5 2Z (hiz), 6 2Y (hiz), 7 2A (in), 8 GND (power), 9 3A (in), 10 3Y (hiz), 11 3Z (hiz), 12 ~{G} (in), 13 4Z (hiz), 14 4Y (hiz), 15 4A (in), 16 VCC (power)

## AM26LV31EINSRG4
designator U?
Low-Voltage High-Speed Quadruple Differential Line Driver with +/-15-kV IEC ESD Protection, 4 TX / 0 RX, 3.3V, -40 to 85 degC, 16-Pin SO (NS), Green (RoHS & no Sb/Br); PartNumber: AM26LV31EINSRG4; Manufacturer: Texas Instruments; SubFamily: RS-422; Drivers Per Package: 4; ICC(Max)(mA): 0.1; Supply Voltage(s)(V): 3.3; Supply Voltage(s)(Max)(V): 3.6; Supply Voltage(s)(Min)(V): 3; ESD(kV): 15; Rating: Catalog; DatasheetVersion: SLLS848A; PackageVersion: revC, Mar-2003; PackageReference: NS16; PackageDescription: 16-Pin Plastic Small Outline Package, 10.2 x 5.3 mm, Pitch 1.27 mm Pitch; Mounting Technology: Surface Mount; Eco-Plan: Green (RoHS & no Sb/Br); # of TX/RX: 4 TX / 0 RX; ComponentLink1Description: Datasheet; ComponentLink1URL: http://www.ti.com/general/docs/lit/getliterature.tsp?genericPartNumber=AM26LV31E&fileType=pdf; ComponentLink2Description: Package Specification; ComponentLink2URL: http://www.ti.com/litv/pdf/msop002a
footprint NS16_N (SOP, 16-Leads, Body 10.2x5.3mm, Pitch 1.27mm, IPC Medium Density)
footprint NS16_L (SOP, 16-Leads, Body 10.2x5.3mm, Pitch 1.27mm, IPC High Density)
footprint NS16_M (SOP, 16-Leads, Body 10.2x5.3mm, Pitch 1.27mm, IPC Low Density)
pins: 1 1A (in), 2 1Y (hiz), 3 1Z (hiz), 4 G (in), 5 2Z (hiz), 6 2Y (hiz), 7 2A (in), 8 GND (power), 9 3A (in), 10 3Y (hiz), 11 3Z (hiz), 12 ~{G} (in), 13 4Z (hiz), 14 4Y (hiz), 15 4A (in), 16 VCC (power)

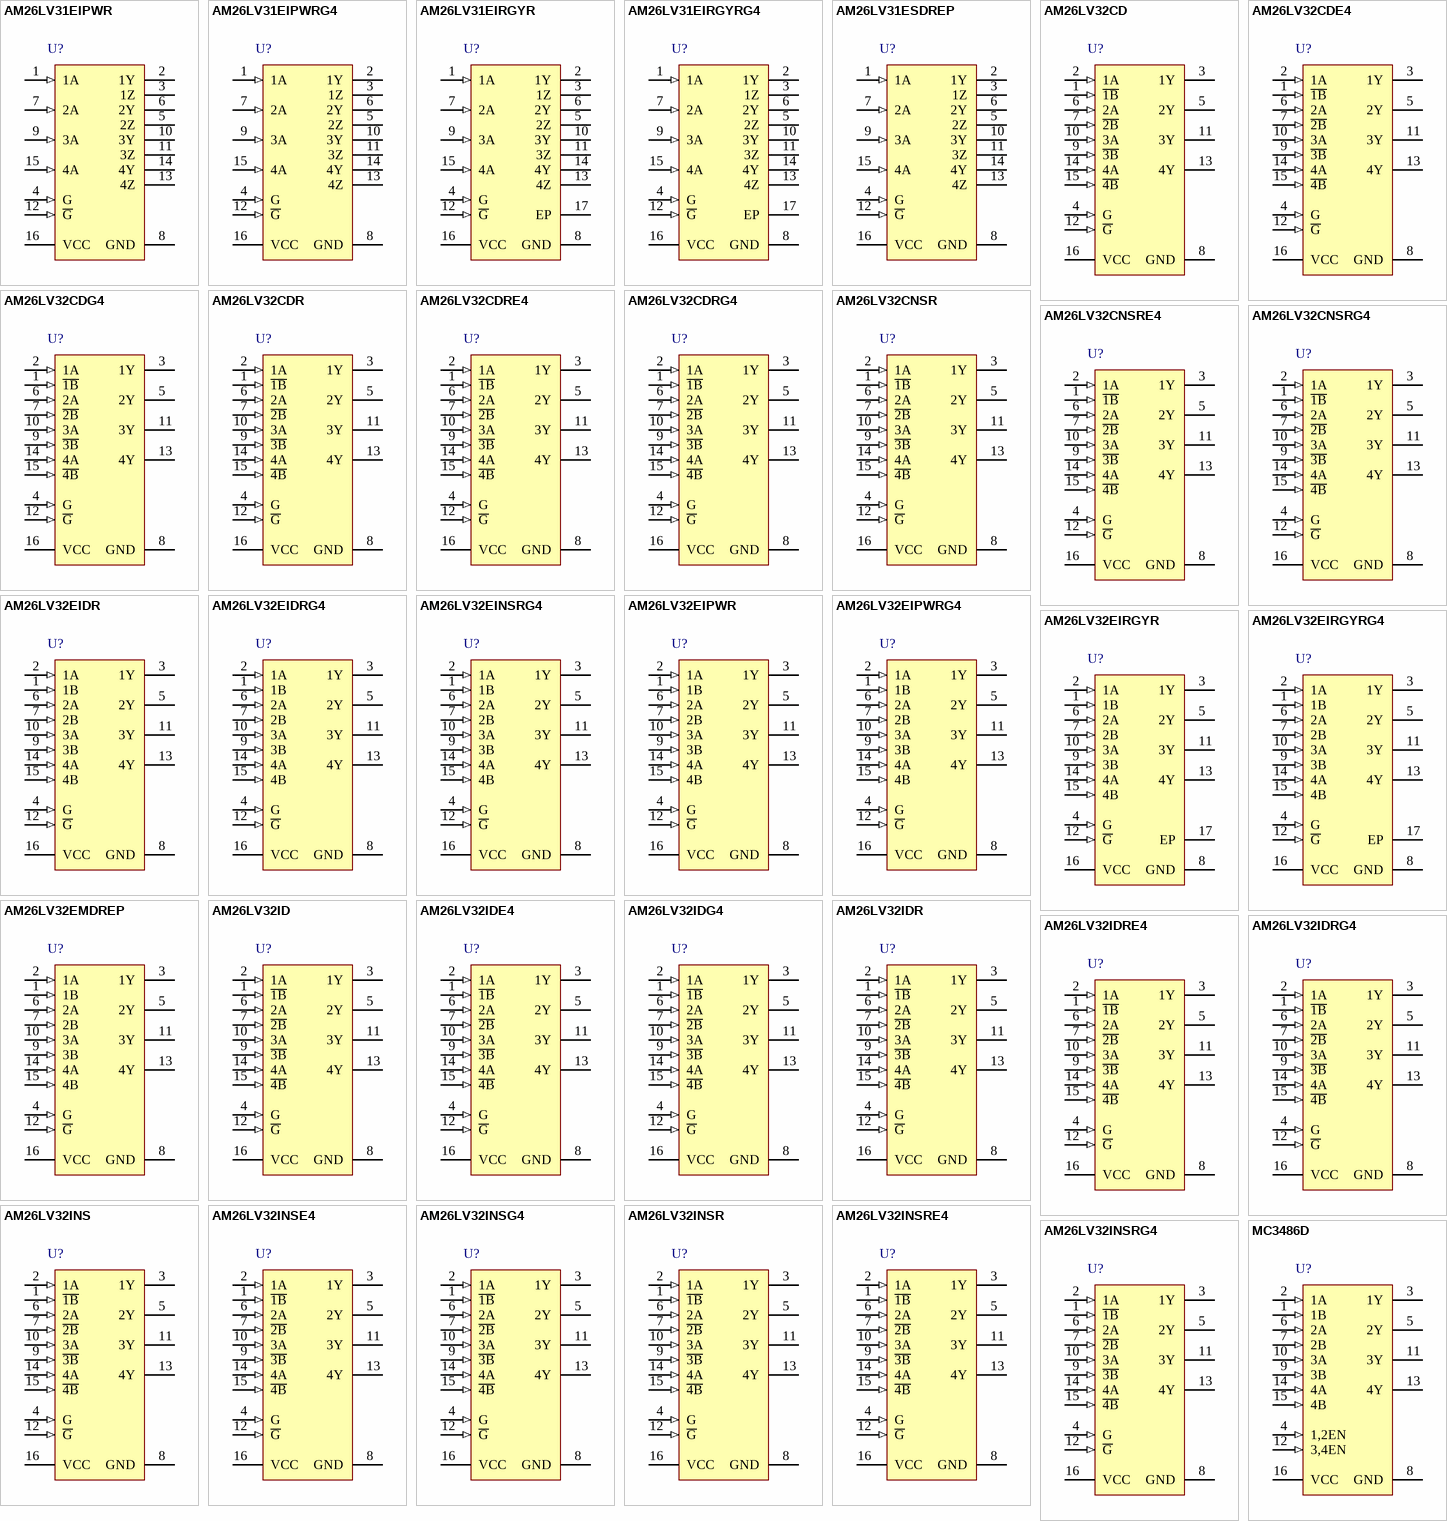
[diagram p4: symbols AM26LV31EIPWR to MC3486D]

## AM26LV31EIPWR
designator U?
Low-Voltage High-Speed Quadruple Differential Line Driver with +/-15-kV IEC ESD Protection, 4 TX / 0 RX, 3.3V, -40 to 85 degC, 16-Pin TSSOP (PW), Green (RoHS & no Sb/Br); PartNumber: AM26LV31EIPWR; Manufacturer: Texas Instruments; SubFamily: RS-422; Drivers Per Package: 4; ICC(Max)(mA): 0.1; Supply Voltage(s)(V): 3.3; Supply Voltage(s)(Max)(V): 3.6; Supply Voltage(s)(Min)(V): 3; ESD(kV): 15; Rating: Catalog; DatasheetVersion: SLLS848A; PackageVersion: revG, Feb-2011; PackageReference: PW16; PackageDescription: 16-Pin Plastic Thin Small Outline Package 5 x 4.4 mm Body ,0.65 mm Pitch; Mounting Technology: Surface Mount; Eco-Plan: Green (RoHS & no Sb/Br); # of TX/RX: 4 TX / 0 RX; Code_JEDEC: MO-153; ComponentLink1Description: Datasheet; ComponentLink1URL: http://www.ti.com/general/docs/lit/getliterature.tsp?genericPartNumber=AM26LV31E&fileType=pdf; ComponentLink2Description: Package Specification; ComponentLink2URL: http://www.ti.com/lit/ml/mpds361/mpds361.pdf
footprint PW16_N (TSOP, 16-Leads, Body 5x4.4mm, Pitch 0.65mm, IPC Medium Density)
footprint PW16_L (TSOP, 16-Leads, Body 5x4.4mm, Pitch 0.65mm, IPC High Density)
footprint PW16_M (TSOP, 16-Leads, Body 5x4.4mm, Pitch 0.65mm, IPC Low Density)
pins: 1 1A (in), 2 1Y (hiz), 3 1Z (hiz), 4 G (in), 5 2Z (hiz), 6 2Y (hiz), 7 2A (in), 8 GND (power), 9 3A (in), 10 3Y (hiz), 11 3Z (hiz), 12 ~{G} (in), 13 4Z (hiz), 14 4Y (hiz), 15 4A (in), 16 VCC (power)

## AM26LV31EIPWRG4
designator U?
Low-Voltage High-Speed Quadruple Differential Line Driver with +/-15-kV IEC ESD Protection, 4 TX / 0 RX, 3.3V, -40 to 85 degC, 16-Pin TSSOP (PW), Green (RoHS & no Sb/Br); PartNumber: AM26LV31EIPWRG4; Manufacturer: Texas Instruments; SubFamily: RS-422; Drivers Per Package: 4; ICC(Max)(mA): 0.1; Supply Voltage(s)(V): 3.3; Supply Voltage(s)(Max)(V): 3.6; Supply Voltage(s)(Min)(V): 3; ESD(kV): 15; Rating: Catalog; DatasheetVersion: SLLS848A; PackageVersion: revG, Feb-2011; PackageReference: PW16; PackageDescription: 16-Pin Plastic Thin Small Outline Package 5 x 4.4 mm Body ,0.65 mm Pitch; Mounting Technology: Surface Mount; Eco-Plan: Green (RoHS & no Sb/Br); # of TX/RX: 4 TX / 0 RX; Code_JEDEC: MO-153; ComponentLink1Description: Datasheet; ComponentLink1URL: http://www.ti.com/general/docs/lit/getliterature.tsp?genericPartNumber=AM26LV31E&fileType=pdf; ComponentLink2Description: Package Specification; ComponentLink2URL: http://www.ti.com/lit/ml/mpds361/mpds361.pdf
footprint PW16_N (TSOP, 16-Leads, Body 5x4.4mm, Pitch 0.65mm, IPC Medium Density)
footprint PW16_L (TSOP, 16-Leads, Body 5x4.4mm, Pitch 0.65mm, IPC High Density)
footprint PW16_M (TSOP, 16-Leads, Body 5x4.4mm, Pitch 0.65mm, IPC Low Density)
pins: 1 1A (in), 2 1Y (hiz), 3 1Z (hiz), 4 G (in), 5 2Z (hiz), 6 2Y (hiz), 7 2A (in), 8 GND (power), 9 3A (in), 10 3Y (hiz), 11 3Z (hiz), 12 ~{G} (in), 13 4Z (hiz), 14 4Y (hiz), 15 4A (in), 16 VCC (power)

## AM26LV31EIRGYR
designator U?
Low-Voltage High-Speed Quadruple Differential Line Driver with +/-15-kV IEC ESD Protection, 4 TX / 0 RX, 3.3V, -40 to 85 degC, 16-Pin VQFN (RGY), Green (RoHS & no Sb/Br); PartNumber: AM26LV31EIRGYR; Manufacturer: Texas Instruments; SubFamily: RS-422; Drivers Per Package: 4; ICC(Max)(mA): 0.1; Supply Voltage(s)(V): 3.3; Supply Voltage(s)(Max)(V): 3.6; Supply Voltage(s)(Min)(V): 3; ESD(kV): 15; Rating: Catalog; DatasheetVersion: SLLS848A; PackageVersion: revI, Jun-2011; PackageReference: RGY16-2550X2050TP; PackageDescription: 16-Leads Plastic Quad Flatpack No-Lead, 3.5 x 4 x 0.9 mm Body, 0.5 mm Pitch; Mounting Technology: Surface Mount; Eco-Plan: Green (RoHS & no Sb/Br); # of TX/RX: 4 TX / 0 RX; Code_JEDEC: MO-241-BA; ComponentLink1Description: Datasheet; ComponentLink1URL: http://www.ti.com/general/docs/lit/getliterature.tsp?genericPartNumber=AM26LV31E&fileType=pdf; ComponentLink2Description: Package Specification; ComponentLink2URL: http://www.ti.com/litv/pdf/mpqf115g
footprint RGY16-2550X2050TP (QFN, 16-Leads, Body 4x3.5mm, Pitch 0.5mm, Thermal Pad 2.55x2.05mm, TI Recommended)
pins: 1 1A (in), 2 1Y (hiz), 3 1Z (hiz), 4 G (in), 5 2Z (hiz), 6 2Y (hiz), 7 2A (in), 8 GND (power), 9 3A (in), 10 3Y (hiz), 11 3Z (hiz), 12 ~{G} (in), 13 4Z (hiz), 14 4Y (hiz), 15 4A (in), 16 VCC (power), 17 EP "Exposed Thermal Pad"

## AM26LV31EIRGYRG4
designator U?
Low-Voltage High-Speed Quadruple Differential Line Driver with +/-15-kV IEC ESD Protection, 4 TX / 0 RX, 3.3V, -40 to 85 degC, 16-Pin VQFN (RGY), Green (RoHS & no Sb/Br); PartNumber: AM26LV31EIRGYRG4; Manufacturer: Texas Instruments; SubFamily: RS-422; Drivers Per Package: 4; ICC(Max)(mA): 0.1; Supply Voltage(s)(V): 3.3; Supply Voltage(s)(Max)(V): 3.6; Supply Voltage(s)(Min)(V): 3; ESD(kV): 15; Rating: Catalog; DatasheetVersion: SLLS848A; PackageVersion: revI, Jun-2011; PackageReference: RGY16-2550X2050TP; PackageDescription: 16-Leads Plastic Quad Flatpack No-Lead, 3.5 x 4 x 0.9 mm Body, 0.5 mm Pitch; Mounting Technology: Surface Mount; Eco-Plan: Green (RoHS & no Sb/Br); # of TX/RX: 4 TX / 0 RX; Code_JEDEC: MO-241-BA; ComponentLink1Description: Datasheet; ComponentLink1URL: http://www.ti.com/general/docs/lit/getliterature.tsp?genericPartNumber=AM26LV31E&fileType=pdf; ComponentLink2Description: Package Specification; ComponentLink2URL: http://www.ti.com/litv/pdf/mpqf115g
footprint RGY16-2550X2050TP (QFN, 16-Leads, Body 4x3.5mm, Pitch 0.5mm, Thermal Pad 2.55x2.05mm, TI Recommended)
pins: 1 1A (in), 2 1Y (hiz), 3 1Z (hiz), 4 G (in), 5 2Z (hiz), 6 2Y (hiz), 7 2A (in), 8 GND (power), 9 3A (in), 10 3Y (hiz), 11 3Z (hiz), 12 ~{G} (in), 13 4Z (hiz), 14 4Y (hiz), 15 4A (in), 16 VCC (power), 17 EP "Exposed Thermal Pad"

## AM26LV31ESDREP
designator U?
Enhanced Product Low-Voltage High-Speed Quad Differential Line Driver, +/-15-kV IEC ESD Protection, 4 TX / 0 RX, 3.3V, -55 to 105 degC, 16-Pin SOIC (D), Green (RoHS & no Sb/Br); PartNumber: AM26LV31ESDREP; Manufacturer: Texas Instruments; SubFamily: RS-422; Drivers Per Package: 4; ICC(Max)(mA): 0.1; Supply Voltage(s)(V): 3.3; Supply Voltage(s)(Max)(V): 3.6; Supply Voltage(s)(Min)(V): 3; ESD(kV): 15; Rating: HiRel Enhanced Product; DatasheetVersion: SLLS947; PackageVersion: revM, Jun-2011; PackageReference: D16; PackageDescription: 16-Pin Plastic Small Outline Integrated Circuit, 9.9 x 3.9 mm, Pitch 1.27 mm Pitch; Mounting Technology: Surface Mount; Eco-Plan: Green (RoHS & no Sb/Br); # of TX/RX: 4 TX / 0 RX; Code_JEDEC: MS-012AC; ComponentLink1Description: Datasheet; ComponentLink1URL: http://www.ti.com/general/docs/lit/getliterature.tsp?genericPartNumber=AM26LV31E-EP&fileType=pdf; ComponentLink2Description: Package Specification; ComponentLink2URL: http://www.ti.com/litv/pdf/mpds178g
footprint D16_N (SOIC, 16-Leads, Body 9.9x3.9mm, Pitch 1.27mm, IPC Medium Density)
footprint D16_L (SOIC, 16-Leads, Body 9.9x3.9mm, Pitch 1.27mm, IPC High Density)
footprint D16_M (SOIC, 16-Leads, Body 9.9x3.9mm, Pitch 1.27mm, IPC Low Density)
pins: 1 1A (in), 2 1Y (hiz), 3 1Z (hiz), 4 G (in), 5 2Z (hiz), 6 2Y (hiz), 7 2A (in), 8 GND (power), 9 3A (in), 10 3Y (hiz), 11 3Z (hiz), 12 ~{G} (in), 13 4Z (hiz), 14 4Y (hiz), 15 4A (in), 16 VCC (power)

## AM26LV32CD
designator U?
Low-Voltage High-Speed Quadruple Differential Line Receiver, 3.3V, 0 to 70 degC, 16-Pin SOIC (D), Green (RoHS & no Sb/Br); PartNumber: AM26LV32CD; Manufacturer: Texas Instruments; SubFamily: RS-422; Receivers Per Package: 4; ICC(Max)(mA): 17; Supply Voltage(s)(V): 3.3; ESD(kV): 2; Rating: Catalog; DatasheetVersion: SLLS202E; PackageVersion: revM, Jun-2011; PackageReference: D16; PackageDescription: 16-Pin Plastic Small Outline Integrated Circuit, 9.9 x 3.9 mm, Pitch 1.27 mm Pitch; Mounting Technology: Surface Mount; Eco-Plan: Green (RoHS & no Sb/Br); Footprint: AM26LS32; Code_JEDEC: MS-012AC; ComponentLink1Description: Datasheet; ComponentLink1URL: http://www.ti.com/general/docs/lit/getliterature.tsp?genericPartNumber=AM26LV32&fileType=pdf; ComponentLink2Description: Package Specification; ComponentLink2URL: http://www.ti.com/litv/pdf/mpds178g
footprint D16_N (SOIC, 16-Leads, Body 9.9x3.9mm, Pitch 1.27mm, IPC Medium Density)
footprint D16_L (SOIC, 16-Leads, Body 9.9x3.9mm, Pitch 1.27mm, IPC High Density)
footprint D16_M (SOIC, 16-Leads, Body 9.9x3.9mm, Pitch 1.27mm, IPC Low Density)
pins: 1 ~{1B} (in), 2 1A (in), 3 1Y (hiz), 4 G (in), 5 2Y (hiz), 6 2A (in), 7 ~{2B} (in), 8 GND (power), 9 ~{3B} (in), 10 3A (in), 11 3Y (hiz), 12 ~{G} (in), 13 4Y (hiz), 14 4A (in), 15 ~{4B} (in), 16 VCC (power)

## AM26LV32CDE4
designator U?
Low-Voltage High-Speed Quadruple Differential Line Receiver, 3.3V, 0 to 70 degC, 16-Pin SOIC (D), Green (RoHS & no Sb/Br); PartNumber: AM26LV32CDE4; Manufacturer: Texas Instruments; SubFamily: RS-422; Receivers Per Package: 4; ICC(Max)(mA): 17; Supply Voltage(s)(V): 3.3; ESD(kV): 2; Rating: Catalog; DatasheetVersion: SLLS202E; PackageVersion: revM, Jun-2011; PackageReference: D16; PackageDescription: 16-Pin Plastic Small Outline Integrated Circuit, 9.9 x 3.9 mm, Pitch 1.27 mm Pitch; Mounting Technology: Surface Mount; Eco-Plan: Green (RoHS & no Sb/Br); Footprint: AM26LS32; Code_JEDEC: MS-012AC; ComponentLink1Description: Datasheet; ComponentLink1URL: http://www.ti.com/general/docs/lit/getliterature.tsp?genericPartNumber=AM26LV32&fileType=pdf; ComponentLink2Description: Package Specification; ComponentLink2URL: http://www.ti.com/litv/pdf/mpds178g
footprint D16_N (SOIC, 16-Leads, Body 9.9x3.9mm, Pitch 1.27mm, IPC Medium Density)
footprint D16_L (SOIC, 16-Leads, Body 9.9x3.9mm, Pitch 1.27mm, IPC High Density)
footprint D16_M (SOIC, 16-Leads, Body 9.9x3.9mm, Pitch 1.27mm, IPC Low Density)
pins: 1 ~{1B} (in), 2 1A (in), 3 1Y (hiz), 4 G (in), 5 2Y (hiz), 6 2A (in), 7 ~{2B} (in), 8 GND (power), 9 ~{3B} (in), 10 3A (in), 11 3Y (hiz), 12 ~{G} (in), 13 4Y (hiz), 14 4A (in), 15 ~{4B} (in), 16 VCC (power)

## AM26LV32CDG4
designator U?
Low-Voltage High-Speed Quadruple Differential Line Receiver, 3.3V, 0 to 70 degC, 16-Pin SOIC (D), Green (RoHS & no Sb/Br); PartNumber: AM26LV32CDG4; Manufacturer: Texas Instruments; SubFamily: RS-422; Receivers Per Package: 4; ICC(Max)(mA): 17; Supply Voltage(s)(V): 3.3; ESD(kV): 2; Rating: Catalog; DatasheetVersion: SLLS202E; PackageVersion: revM, Jun-2011; PackageReference: D16; PackageDescription: 16-Pin Plastic Small Outline Integrated Circuit, 9.9 x 3.9 mm, Pitch 1.27 mm Pitch; Mounting Technology: Surface Mount; Eco-Plan: Green (RoHS & no Sb/Br); Footprint: AM26LS32; Code_JEDEC: MS-012AC; ComponentLink1Description: Datasheet; ComponentLink1URL: http://www.ti.com/general/docs/lit/getliterature.tsp?genericPartNumber=AM26LV32&fileType=pdf; ComponentLink2Description: Package Specification; ComponentLink2URL: http://www.ti.com/litv/pdf/mpds178g
footprint D16_N (SOIC, 16-Leads, Body 9.9x3.9mm, Pitch 1.27mm, IPC Medium Density)
footprint D16_L (SOIC, 16-Leads, Body 9.9x3.9mm, Pitch 1.27mm, IPC High Density)
footprint D16_M (SOIC, 16-Leads, Body 9.9x3.9mm, Pitch 1.27mm, IPC Low Density)
pins: 1 ~{1B} (in), 2 1A (in), 3 1Y (hiz), 4 G (in), 5 2Y (hiz), 6 2A (in), 7 ~{2B} (in), 8 GND (power), 9 ~{3B} (in), 10 3A (in), 11 3Y (hiz), 12 ~{G} (in), 13 4Y (hiz), 14 4A (in), 15 ~{4B} (in), 16 VCC (power)

## AM26LV32CDR
designator U?
Low-Voltage High-Speed Quadruple Differential Line Receiver, 3.3V, 0 to 70 degC, 16-Pin SOIC (D), Green (RoHS & no Sb/Br); PartNumber: AM26LV32CDR; Manufacturer: Texas Instruments; SubFamily: RS-422; Receivers Per Package: 4; ICC(Max)(mA): 17; Supply Voltage(s)(V): 3.3; ESD(kV): 2; Rating: Catalog; DatasheetVersion: SLLS202E; PackageVersion: revM, Jun-2011; PackageReference: D16; PackageDescription: 16-Pin Plastic Small Outline Integrated Circuit, 9.9 x 3.9 mm, Pitch 1.27 mm Pitch; Mounting Technology: Surface Mount; Eco-Plan: Green (RoHS & no Sb/Br); Footprint: AM26LS32; Code_JEDEC: MS-012AC; ComponentLink1Description: Datasheet; ComponentLink1URL: http://www.ti.com/general/docs/lit/getliterature.tsp?genericPartNumber=AM26LV32&fileType=pdf; ComponentLink2Description: Package Specification; ComponentLink2URL: http://www.ti.com/litv/pdf/mpds178g
footprint D16_N (SOIC, 16-Leads, Body 9.9x3.9mm, Pitch 1.27mm, IPC Medium Density)
footprint D16_L (SOIC, 16-Leads, Body 9.9x3.9mm, Pitch 1.27mm, IPC High Density)
footprint D16_M (SOIC, 16-Leads, Body 9.9x3.9mm, Pitch 1.27mm, IPC Low Density)
pins: 1 ~{1B} (in), 2 1A (in), 3 1Y (hiz), 4 G (in), 5 2Y (hiz), 6 2A (in), 7 ~{2B} (in), 8 GND (power), 9 ~{3B} (in), 10 3A (in), 11 3Y (hiz), 12 ~{G} (in), 13 4Y (hiz), 14 4A (in), 15 ~{4B} (in), 16 VCC (power)

## AM26LV32CDRE4
designator U?
Low-Voltage High-Speed Quadruple Differential Line Receiver, 3.3V, 0 to 70 degC, 16-Pin SOIC (D), Green (RoHS & no Sb/Br); PartNumber: AM26LV32CDRE4; Manufacturer: Texas Instruments; SubFamily: RS-422; Receivers Per Package: 4; ICC(Max)(mA): 17; Supply Voltage(s)(V): 3.3; ESD(kV): 2; Rating: Catalog; DatasheetVersion: SLLS202E; PackageVersion: revM, Jun-2011; PackageReference: D16; PackageDescription: 16-Pin Plastic Small Outline Integrated Circuit, 9.9 x 3.9 mm, Pitch 1.27 mm Pitch; Mounting Technology: Surface Mount; Eco-Plan: Green (RoHS & no Sb/Br); Footprint: AM26LS32; Code_JEDEC: MS-012AC; ComponentLink1Description: Datasheet; ComponentLink1URL: http://www.ti.com/general/docs/lit/getliterature.tsp?genericPartNumber=AM26LV32&fileType=pdf; ComponentLink2Description: Package Specification; ComponentLink2URL: http://www.ti.com/litv/pdf/mpds178g
footprint D16_N (SOIC, 16-Leads, Body 9.9x3.9mm, Pitch 1.27mm, IPC Medium Density)
footprint D16_L (SOIC, 16-Leads, Body 9.9x3.9mm, Pitch 1.27mm, IPC High Density)
footprint D16_M (SOIC, 16-Leads, Body 9.9x3.9mm, Pitch 1.27mm, IPC Low Density)
pins: 1 ~{1B} (in), 2 1A (in), 3 1Y (hiz), 4 G (in), 5 2Y (hiz), 6 2A (in), 7 ~{2B} (in), 8 GND (power), 9 ~{3B} (in), 10 3A (in), 11 3Y (hiz), 12 ~{G} (in), 13 4Y (hiz), 14 4A (in), 15 ~{4B} (in), 16 VCC (power)

## AM26LV32CDRG4
designator U?
Low-Voltage High-Speed Quadruple Differential Line Receiver, 3.3V, 0 to 70 degC, 16-Pin SOIC (D), Green (RoHS & no Sb/Br); PartNumber: AM26LV32CDRG4; Manufacturer: Texas Instruments; SubFamily: RS-422; Receivers Per Package: 4; ICC(Max)(mA): 17; Supply Voltage(s)(V): 3.3; ESD(kV): 2; Rating: Catalog; DatasheetVersion: SLLS202E; PackageVersion: revM, Jun-2011; PackageReference: D16; PackageDescription: 16-Pin Plastic Small Outline Integrated Circuit, 9.9 x 3.9 mm, Pitch 1.27 mm Pitch; Mounting Technology: Surface Mount; Eco-Plan: Green (RoHS & no Sb/Br); Footprint: AM26LS32; Code_JEDEC: MS-012AC; ComponentLink1Description: Datasheet; ComponentLink1URL: http://www.ti.com/general/docs/lit/getliterature.tsp?genericPartNumber=AM26LV32&fileType=pdf; ComponentLink2Description: Package Specification; ComponentLink2URL: http://www.ti.com/litv/pdf/mpds178g
footprint D16_N (SOIC, 16-Leads, Body 9.9x3.9mm, Pitch 1.27mm, IPC Medium Density)
footprint D16_L (SOIC, 16-Leads, Body 9.9x3.9mm, Pitch 1.27mm, IPC High Density)
footprint D16_M (SOIC, 16-Leads, Body 9.9x3.9mm, Pitch 1.27mm, IPC Low Density)
pins: 1 ~{1B} (in), 2 1A (in), 3 1Y (hiz), 4 G (in), 5 2Y (hiz), 6 2A (in), 7 ~{2B} (in), 8 GND (power), 9 ~{3B} (in), 10 3A (in), 11 3Y (hiz), 12 ~{G} (in), 13 4Y (hiz), 14 4A (in), 15 ~{4B} (in), 16 VCC (power)